# Altium schematic symbol library EMIFIL Cap 3 Terminal.SchLib: 1 symbol
Pins are listed as number, name and electrical type; pins without a type are passive.

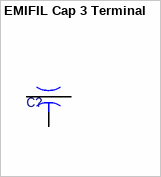
[diagram p0: symbol EMIFIL Cap 3 Terminal]

## EMIFIL Cap 3 Terminal
designator C?
pins: 1 A, 2 GND, 3 B